# Altium schematic symbol library Conn,RF,SMA,Fem,50R,Edge,SMD.Schlib: 1 symbol
Pins are listed as number, name and electrical type; pins without a type are passive.

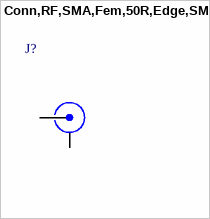
[diagram p0: symbol Conn,RF,SMA,Fem,50R,Edge,SMD]

## Conn,RF,SMA,Fem,50R,Edge,SMD
designator J?
pins: 1 RF, 2 GND